# Altium schematic symbol library THP210DR.SchLib: 1 symbol
Pins are listed as number, name and electrical type; pins without a type are passive.

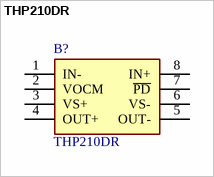
[diagram p0: symbol THP210DR]

## THP210DR
designator B?
Operational Amplifiers - Op Amps High precision (40- V, 0.1 V/C), high-voltage (36-V), low-noise (3.7-nV/ Hz), fully-differential amp 8-SOIC -40 to 125; Manufacturer_Name: Texas Instruments; Geometry.Height: 1.75mm; Mouser Part Number: 595-THP210DR; Mouser Price/Stock: https://www.mouser.co.uk/ProductDetail/Texas-Instruments/THP210DR?qs=eP2BKZSCXI6TpSz98mjAmQ%3D%3D; Manufacturer_Part_Number: THP210DR; Datasheet Link: https://www.ti.com/lit/gpn/THP210
footprint SOIC127P600X175-8N
pins: 1 IN-, 2 VOCM, 3 VS+, 4 OUT+, 5 OUT-, 6 VS-, 7 ~{PD}, 8 IN+